# Altium footprint library LM3674.PcbLib: 1 footprints
Each footprint in its own frame and in the unit in brackets; x right, y up, seen from the top. Pads: shape width x height; smd on the part's side, far side on the other; paste and mask are expansions set on the pad; w line width, h text height; cw(c..) or ccw(c..) is an arc to the next point about the centre after c.
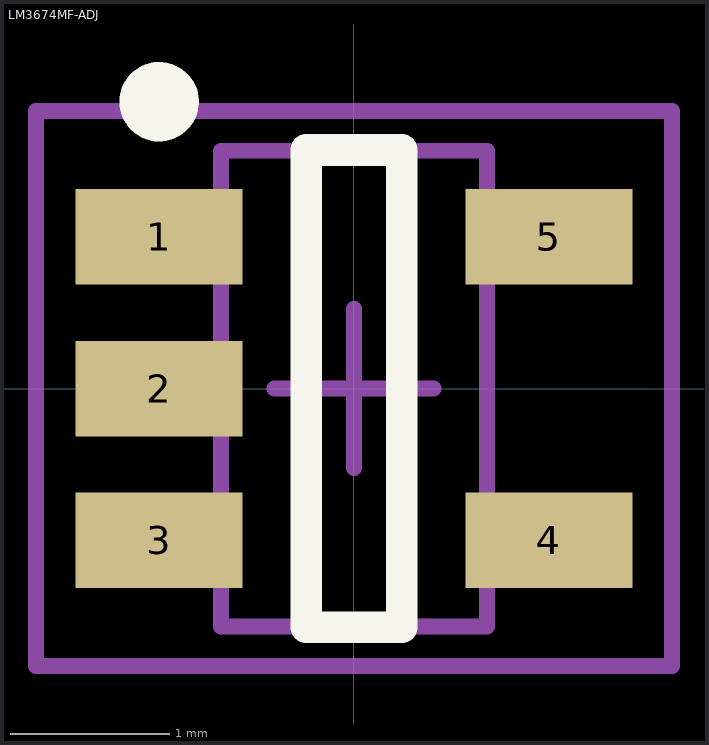
[diagram p0: the footprint, top view; thin cyan lines are the x and y axes]

## LM3674MF-ADJ [mm] "SOT23, 5-Leads, Body 3.0x3.0mm (max), Pitch 0.95mm, IPC Medium Density"
height 1.22
pads (5):
  rect 1.05x0.6 smd: 1(-1.225,0.953) 2(-1.225,0) 3(-1.225,-0.953) 4(1.225,-0.953) 5(1.225,0.953)
Top Overlay:
  circle w0.25: c-1.225,1.803 r0.125
  lines w0.2: -0.3,-1.5 0.3,-1.5 0.3,1.5 -0.3,1.5 -0.3,-1.5
Mechanical 13:
  lines w0.1: -0.835,-1.495 -0.835,1.495 0.835,1.495 0.835,-1.495 -0.835,-1.495
Mechanical 15:
  lines w0.1: -0.5,0 0.5,0 ; 0,-0.5 0,0.5 ; -2,-1.745 -2,1.745 2,1.745 2,-1.745 -2,-1.745
3D body: height 1.22, standoff 0.05, extent -0.835,-1.495 0.835,1.495